# Altium schematic symbol library pwr_switching_flyback.SchLib: 13 symbols
Pins are listed as number, name and electrical type; pins without a type are passive.

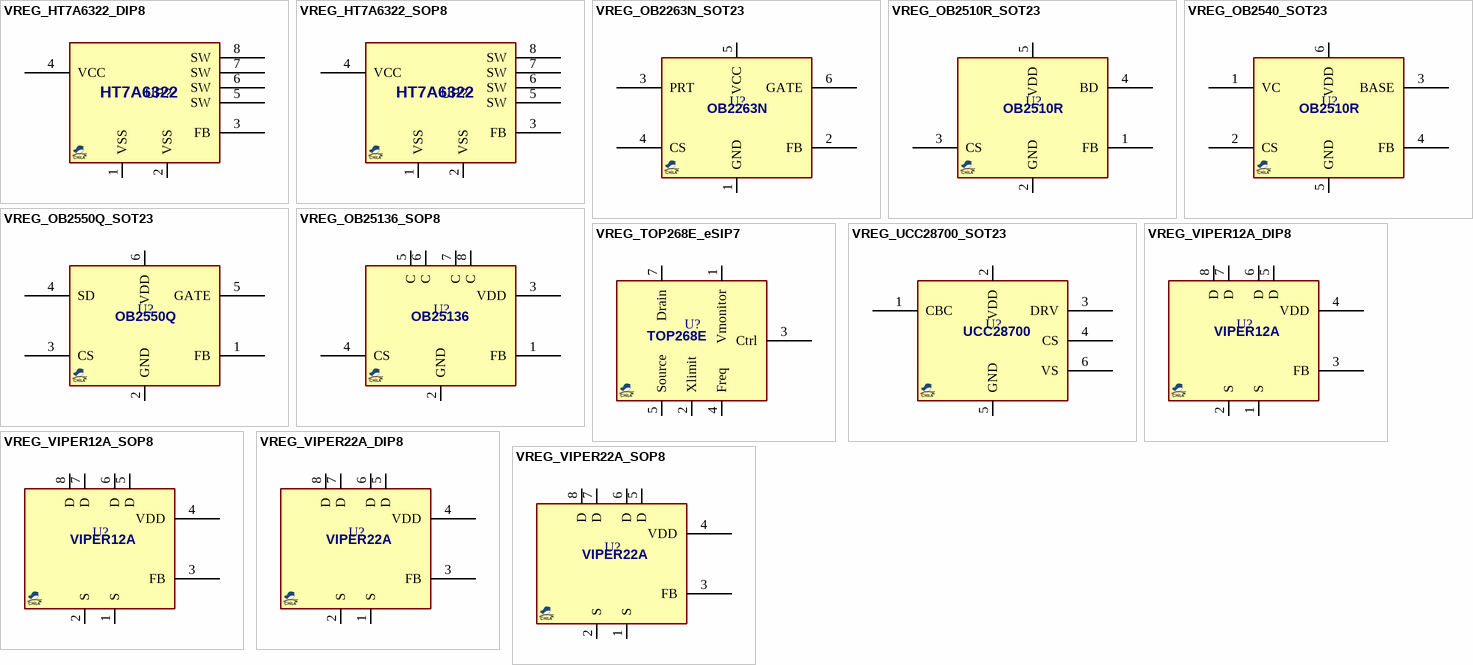
[diagram p0: symbols VREG_HT7A6322_DIP8 to VREG_VIPER22A_SOP8]

## VREG_HT7A6322_DIP8
designator UP?, comment HT7A6322  (value not drawn)
REG, Switching, FlyBack, Low Power, Offline, Primary; MANF: HOLTEK; PARAM: 20/12W, 60KHz, -40~150°C; PARAM2: 85~265VACIN, 9~38VDD; ASSEMBLY: ASSEMBLY; PRICE: -; MANF_P#: HT7A6322; VALUE: HT7A6322
footprint DIP_8 (DIP, pitch 2.54mm, 300mil Width)
pins: 1 VSS (power), 2 VSS (power), 3 FB, 4 VCC (power), 5 SW, 6 SW, 7 SW, 8 SW

## VREG_HT7A6322_SOP8
designator UP?, comment HT7A6322  (value not drawn)
REG, Switching, FlyBack, Low Power, Offline, Primary; MANF: HOLTEK; PARAM: 12/7W, 60KHz, -40~150°C; PARAM2: 85~265VACIN, 9~38VDD; ASSEMBLY: ASSEMBLY; PRICE: 6t@micromodern; MANF_P#: HT7A6322; VALUE: HT7A6322
footprint SO_8 (SOP-8, 5x3.9mm body 1.27mm pitch, SOT96-1, M08A, S8, SOIC8, VO8, MS-012AA(JEDEC), R-8, 8S2, VOG8)
pins: 1 VSS (power), 2 VSS (power), 3 FB, 4 VCC (power), 5 SW, 6 SW, 7 SW, 8 SW

## VREG_OB2263N_SOT23
designator U?, comment OB2263N  (value not drawn)
REG, Switching, FlyBack, Low Power, Offline, Primary; MANF: OnBright; MANF_P#: OB2263NMP; PARAM2: 12~26VDD; PARAM: 65KHz, -40~85°C; ASSEMBLY: ASSEMBLY; PRICE: 0.09$; VALUE: OB2263N
footprint SOT23_6 (SOT-23-6, DDC, DBV, MICRO6, SOT-26, SOT457, SuperSOT6, TSOP-6, HMC313, TSOT, 1.5x3mm, Pitch 0.65mm, CA531, MO-178AB, MO-193AA)
pins: 1 GND, 2 FB, 3 PRT, 4 CS, 5 VCC, 6 GATE

## VREG_OB2510R_SOT23
designator U?, comment OB2510R  (value not drawn)
REG, Switching, FlyBack, Low Power, Offline, Primary; MANF: OnBright; MANF_P#: OB2510RMP; PARAM2: 19~28VDD; PARAM: 90kHz, -20~85°C; ASSEMBLY: ASSEMBLY; PRICE: 0.1$; VALUE: OB2510R
footprint SOT23_5 (SOT-23-5, SOT25, SOT-25, DBV(R-PDSO-G5), SOT753, TSOT23-5, SC-74A, SOT23-5, S5-T (LINEAR), MO-178AA, MO-193AB(JEDEC), MF05A (NS), TSOP-5(ON), UJ-5 (AD), 1.5x3mm, Pitch 0.65mm)
pins: 1 FB, 2 GND, 3 CS, 4 BD, 5 VDD

## VREG_OB2540_SOT23
designator U?, comment OB2540  (value not drawn)
REG, Switching, FlyBack, Low Power, Offline, Primary; MANF: OnBright; MANF_P#: OB2540MP; PARAM2: 11~27VDD; PARAM: -, -20~85°C; ASSEMBLY: ASSEMBLY; PRICE: 0.1$; VALUE: OB2540
footprint SOT23_6 (SOT-23-6, DDC, DBV, MICRO6, SOT-26, SOT457, SuperSOT6, TSOP-6, HMC313, TSOT, 1.5x3mm, Pitch 0.65mm, CA531, MO-178AB, MO-193AA)
pins: 1 VC, 2 CS, 3 BASE, 4 FB, 5 GND, 6 VDD
text: OB2510R

## VREG_OB2550Q_SOT23
designator U?, comment OB2550Q  (value not drawn)
REG, Switching, FlyBack, Low Power, Offline, Primary; MANF: OnBright; MANF_P#: OB2550QMP; PARAM2: 9~24VDD; PARAM: -, -20~85°C; ASSEMBLY: ASSEMBLY; PRICE: 0.12$; VALUE: OB2550Q
footprint SOT23_6 (SOT-23-6, DDC, DBV, MICRO6, SOT-26, SOT457, SuperSOT6, TSOP-6, HMC313, TSOT, 1.5x3mm, Pitch 0.65mm, CA531, MO-178AB, MO-193AA)
pins: 1 FB, 2 GND, 3 CS, 4 SD, 5 GATE, 6 VDD

## VREG_OB25136_SOP8
designator U?, comment OB25136  (value not drawn)
REG, Switching, FlyBack, Low Power, Offline, Primary; MANF: OnBright; MANF_P#: OB25136QCPA; PARAM2: 750v, 5~16VDD; PARAM: 12W, 0.45~90KHz, -20~85°C; ASSEMBLY: ASSEMBLY; PRICE: 4t; VALUE: OB25136
footprint SO_8 (SOP-8, 5x3.9mm body 1.27mm pitch, SOT96-1, M08A, S8, SOIC8, VO8, MS-012AA(JEDEC), R-8, 8S2, VOG8)
pins: 1 FB, 2 GND, 3 VDD, 4 CS, 5 C, 6 C, 7 C, 8 C

## VREG_TOP268E_eSIP7
designator U?, comment TOP268EG  (value not drawn)
REG, Switching, FlyBack, Low Power, Offline, Primary; MANF: Power Integrations; PARAM2: 195~265/85~265VacIN, 18~36VDD; PARAM: 148W openFrame, 132KHz, -40~150°C; ASSEMBLY: ASSEMBLY; MANF_P#: TOP268EG; PRICE: 12t@Paya; VALUE: TOP268EG
footprint ESIP_7C (eSIP-7C)
pins: 1 Vmonitor, 2 Xlimit, 3 Ctrl, 4 Freq, 5 Source, 7 Drain
text: TOP268E

## VREG_UCC28700_SOT23
designator U?, comment UCC28700  (value not drawn)
REG, Switching, FlyBack, Low Power, Offline, Primary; MANF: Texas Instruments; MANF_P#: UCC28700DBV; PARAM2: 9~35VDD; PARAM: 140kHz, -20~85°C; ASSEMBLY: ASSEMBLY; PRICE: 0.5$; VALUE: UCC28700
footprint SOT23_6 (SOT-23-6, DDC, DBV, MICRO6, SOT-26, SOT457, SuperSOT6, TSOP-6, HMC313, TSOT, 1.5x3mm, Pitch 0.65mm, CA531, MO-178AB, MO-193AA)
pins: 1 CBC, 2 VDD, 3 DRV, 4 CS, 5 GND, 6 VS

## VREG_VIPER12A_DIP8
designator U?, comment VIPER12A  (value not drawn)
REG, Switching, FlyBack, Low Power, Offline, Primary; MANF: ST; MANF_P#: VIPer12ADIP, VIPer12ADIP-E; PARAM2: 195~265/85~265VacIN, 9~38VDD; PARAM: 13W/8W, 60KHz, -40~150°C; ASSEMBLY: ASSEMBLY; VALUE: VIPER12A
footprint DIP_8 (DIP, pitch 2.54mm, 300mil Width)
pins: 1 S, 2 S, 3 FB, 4 VDD, 5 D, 6 D, 7 D, 8 D

## VREG_VIPER12A_SOP8
designator U?, comment VIPER12A  (value not drawn)
REG, Switching, FlyBack, Low Power, Offline, Primary; MANF: ST; MANF_P#: VIPer12AS, VIPer12AS-E; PARAM2: 195~265/85~265VacIN, 9~38VDD; PARAM: 8W/5W, 60KHz, -40~150°C; ASSEMBLY: ASSEMBLY; PRICE: 8t@paya; VALUE: VIPER12A
footprint SO_8 (SOP-8, 5x3.9mm body 1.27mm pitch, SOT96-1, M08A, S8, SOIC8, VO8, MS-012AA(JEDEC), R-8, 8S2, VOG8)
pins: 1 S, 2 S, 3 FB, 4 VDD, 5 D, 6 D, 7 D, 8 D

## VREG_VIPER22A_DIP8
designator U?, comment VIPER12A  (value not drawn)
REG, Switching, FlyBack, Low Power, Offline, Primary; MANF: ST; MANF_P#: VIPer22ADIP, VIPer22ADIP-E; PARAM2: 195~265/85~265VacIN, 9~38VDD; PARAM: 20W/12W, 60KHz, -40~150°C; ASSEMBLY: ASSEMBLY; VALUE: VIPER12A
footprint DIP_8 (DIP, pitch 2.54mm, 300mil Width)
pins: 1 S, 2 S, 3 FB, 4 VDD, 5 D, 6 D, 7 D, 8 D
text: VIPER22A

## VREG_VIPER22A_SOP8
designator U?, comment VIPER12A  (value not drawn)
REG, Switching, FlyBack, Low Power, Offline, Primary; MANF: ST; MANF_P#: VIPer22AS, VIPer22AS-E; PARAM2: 195~265/85~265VacIN, 9~38VDD; PARAM: 12W/7W, 60KHz, -40~150°C; ASSEMBLY: ASSEMBLY; VALUE: VIPER12A
footprint SO_8 (SOP-8, 5x3.9mm body 1.27mm pitch, SOT96-1, M08A, S8, SOIC8, VO8, MS-012AA(JEDEC), R-8, 8S2, VOG8)
pins: 1 S, 2 S, 3 FB, 4 VDD, 5 D, 6 D, 7 D, 8 D
text: VIPER22A